# Altium footprint library D 电源模块.PcbLib: 107 footprints (part 5 of 7)
Each footprint in its own frame and in the unit in brackets; x right, y up, seen from the top. Pads: shape width x height; smd on the part's side, far side on the other; paste and mask are expansions set on the pad; w line width, h text height; cw(c..) or ccw(c..) is an arc to the next point about the centre after c.
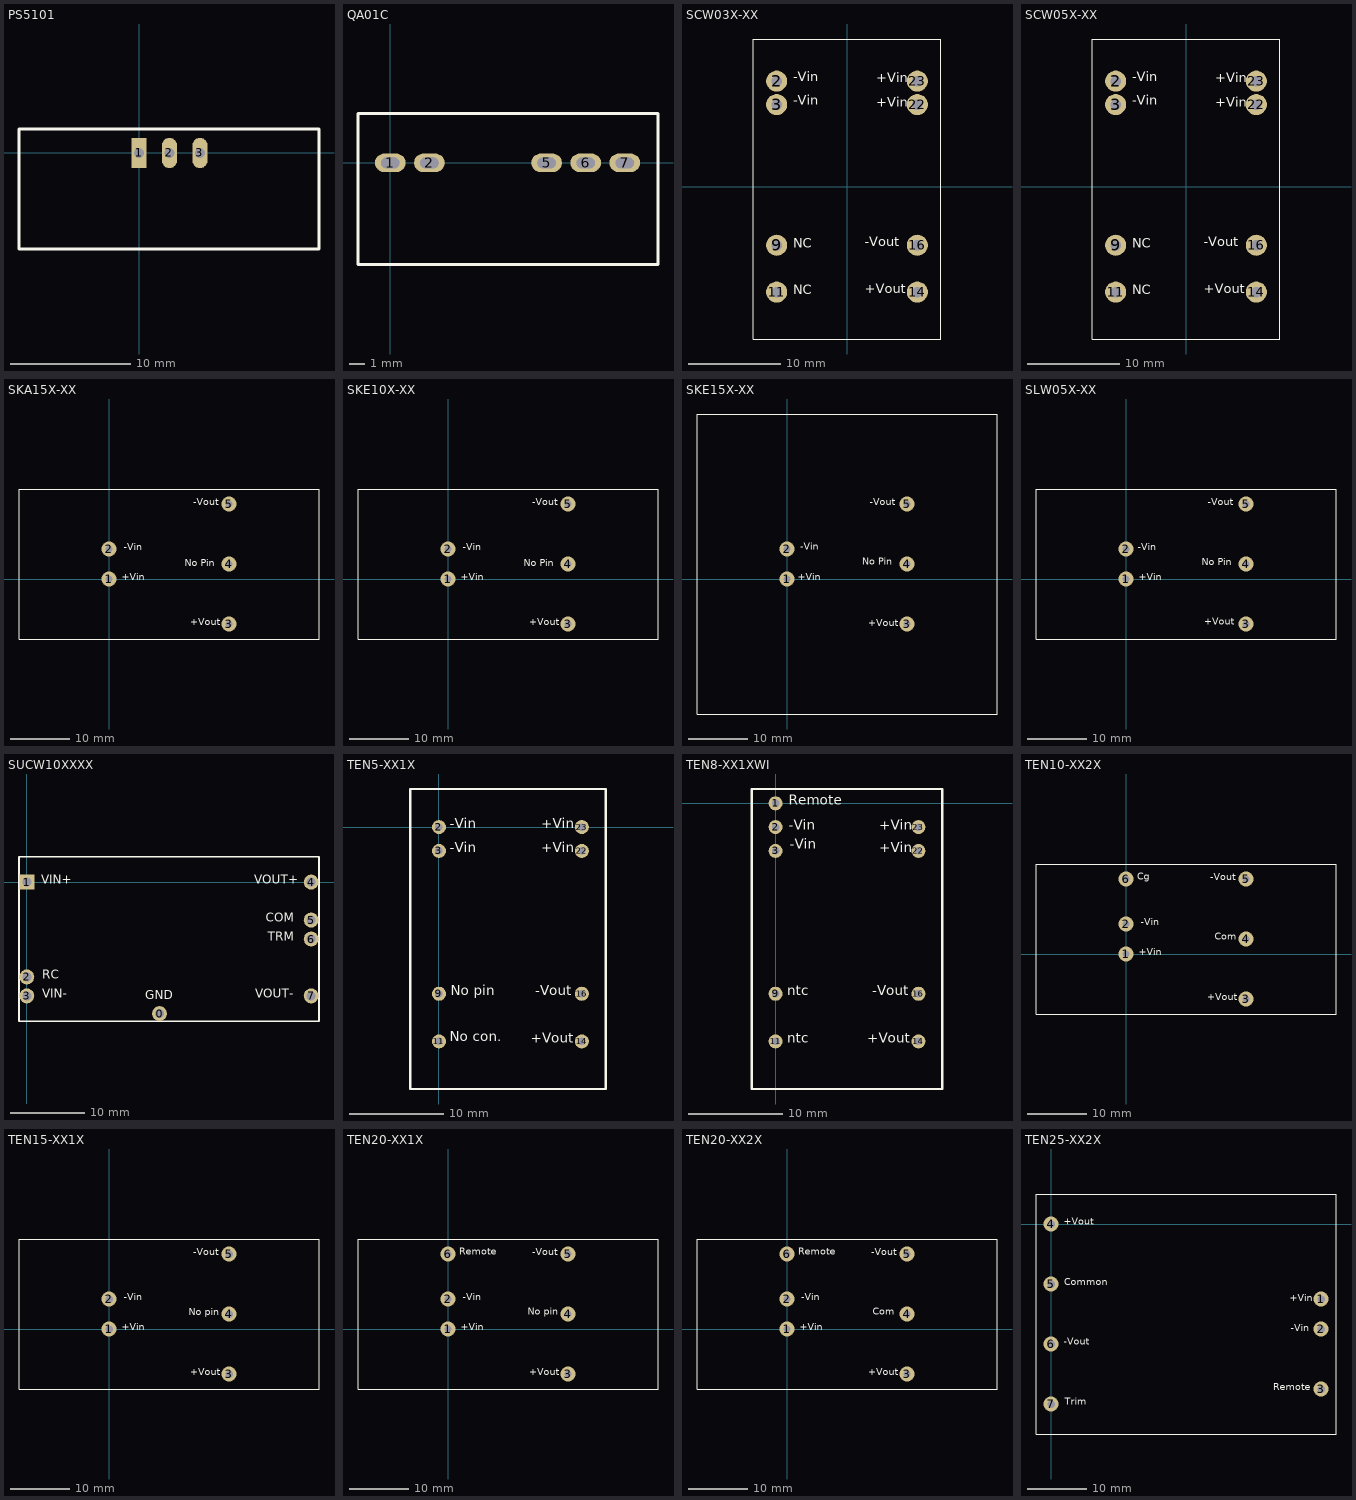
[diagram p4: the footprints below, top view; thin cyan lines are the x and y axes]

## PS5101 [mil] "TO-220封装，Input:7-40V,Output:5V ,5W降压型DC-DC电源模块"
height 1000
pads (3):
  rect 50x100 hole 32: 1(0,0)
  oval 50x100 hole 32: 2(100,0) 3(200,0)
Top Overlay:
  lines w10: -393.7,-314.96 -393.7,78.74 590.55,78.74 590.55,-314.96 -393.7,-314.96

## QA01C [mm]
height 15.7
pads (5):
  oval 2x1.2 hole 0.7 slot 1.2 at 0 deg: 1(0,0) 2(2.54,0) 5(10.16,0) 6(12.7,0) 7(15.24,0)
Top Overlay:
  lines w0.203: -2.1,-6.6 17.4,-6.6 17.4,3.2 -2.1,3.2 -2.1,-6.6

## SCW03X-XX [mil] "明纬DC-DC 3W 2：1宽输入/隔离稳压/单组输出电源"
height 480.31
pads (8):
  round 90 hole 45: 2(-300,450) 3(-300,350) 9(-300,-250) 11(-300,-450) 14(300,-450) 16(300,-250) 22(300,350) 23(300,450)
Top Overlay:
  lines w5: -400,-650 400,-650 400,630 -400,630 -400,-650
  text "+Vin" at 125,325 h70
  text "+Vin" at 125,430 h70
  text "-Vin" at -230,335 h70
  text "-Vin" at -230,435 h70
  text "-Vout" at 75,-270 h70
  text "+Vout" at 75,-470 h70
  text "NC" at -230,-275 h70
  text "NC" at -230,-475 h70
Bottom Overlay:
  text "+Vin" at 245,325 h70
  text "+Vin" at 245,425 h70
  text "-Vin" at -130,335 h70
  text "-Vin" at -125,435 h70
  text "-Vout" at 225,-270 h70
  text "+Vout" at 240,-470 h70
  text "NC" at -150,-275 h70
  text "NC" at -150,-475 h70

## SCW05X-XX [mil] "明纬DC-DC 5W 2：1宽输入/隔离稳压/单组输出电源"
height 480.31
pads (8):
  round 90 hole 45: 2(-300,450) 3(-300,350) 9(-300,-250) 11(-300,-450) 14(300,-450) 16(300,-250) 22(300,350) 23(300,450)
Top Overlay:
  lines w5: -400,-650 400,-650 400,630 -400,630 -400,-650
  text "-Vin" at -230,335 h70
  text "-Vin" at -230,435 h70
  text "+Vin" at 125,430 h70
  text "+Vin" at 125,325 h70
  text "NC" at -230,-275 h70
  text "NC" at -230,-475 h70
  text "+Vout" at 75,-470 h70
  text "-Vout" at 75,-270 h70
Bottom Overlay:
  text "-Vin" at -130,335 h70
  text "-Vin" at -125,435 h70
  text "+Vin" at 245,425 h70
  text "+Vin" at 245,325 h70
  text "NC" at -150,-275 h70
  text "NC" at -150,-475 h70
  text "+Vout" at 240,-470 h70
  text "-Vout" at 225,-270 h70

## SKA15X-XX [mil] "明纬DC-DC 15W 2：1宽输入/隔离稳压/单组输出电源"
height 443.7
pads (5):
  round 100 hole 45: 1(0,0) 2(0,200) 3(800,-300) 4(800,100) 5(800,500)
Top Overlay:
  lines w5: -600,-400 -600,600 1400,600 1400,-400 -600,-400
  text "-Vout" at 560,475 h80
  text "+Vout" at 540,-325 h80
  text "+Vin" at 85,-25 h80
  text "-Vin" at 99.91,175 h80
  text "No Pin" at 505,70 h80
Bottom Overlay:
  text "+Vout" at 720,-330 h80
  text "-Vin" at 220,175 h80
  text "+Vin" at 220,-25 h80
  text "-Vout" at 730,475 h80
  text "No Pin" at 710,70 h80

## SKE10X-XX [mil] "明纬DC-DC 10W 2：1宽输入/隔离稳压/单组输出电源"
height 443.7
pads (5):
  round 100 hole 45: 1(0,0) 2(0,200) 3(800,-300) 4(800,100) 5(800,500)
Top Overlay:
  lines w5: -600,-400 1400,-400 1400,600 -600,600 -600,-400
  text "No Pin" at 505,70 h80
  text "-Vin" at 99.91,175 h80
  text "+Vin" at 85,-25 h80
  text "+Vout" at 540,-325 h80
  text "-Vout" at 560,475 h80
Bottom Overlay:
  text "-Vout" at 730,475 h80
  text "+Vin" at 220,-25 h80
  text "-Vin" at 220,175 h80
  text "+Vout" at 720,-330 h80
  text "No Pin" at 715,70 h80

## SKE15X-XX [mil] "明纬DC-DC 15W 2：1宽输入/隔离稳压/单组输出电源"
height 433.07
pads (5):
  round 100 hole 45: 1(0,0) 2(0,200) 3(800,-300) 4(800,100) 5(800,500)
Top Overlay:
  lines w5: -600,-900 -600,1100 1400,1100 1400,-900 -600,-900
  text "No Pin" at 500,80 h80
  text "-Vin" at 89.91,180 h80
  text "+Vin" at 70,-25 h80
  text "+Vout" at 540,-330 h80
  text "-Vout" at 550,475 h80
Bottom Overlay:
  text "-Vout" at 720,475 h80
  text "+Vin" at 205,-25 h80
  text "-Vin" at 210,180 h80
  text "+Vout" at 720,-335 h80
  text "No Pin" at 710,80 h80

## SLW05X-XX [mil] "明纬DC-DC 5W 2：1宽输入/隔离稳压/单组输出电源"
height 443.7
pads (5):
  round 100 hole 45: 1(0,0) 2(0,200) 3(800,-300) 4(800,100) 5(800,500)
Top Overlay:
  lines w5: -600,-400 1400,-400 1400,600 -600,600 -600,-400
  text "No Pin" at 505,75 h80
  text "-Vin" at 79.91,175 h80
  text "+Vin" at 85,-25 h80
  text "+Vout" at 520,-320 h80
  text "-Vout" at 545,475 h80
Bottom Overlay:
  text "No Pin" at 710,75 h80
  text "-Vout" at 715,475 h80
  text "+Vin" at 220,-25 h80
  text "-Vin" at 200,175 h80
  text "+Vout" at 700,-325 h80

## SUCW10XXXX [mm] "COSEL 10W DC-DC电源"
height 7
pads (8):
  round 2 hole 1.2: 0(17.78,-17.62) 2(0,-12.7) 3(0,-15.24) 4(38.1,0) 5(38.1,-5.08) 6(38.1,-7.62) 7(38.1,-15.24)
  rect 2x2 hole 1.2: 1(0,0)
Top Overlay:
  lines w0.203: -1.05,-18.62 39.15,-18.62 39.15,3.38 -1.05,3.38 -1.05,-18.62
  text "VIN+" at 1.905,-0.635 h2.03
  text "RC" at 2.032,-13.335 h2.03
  text "VIN-" at 2.032,-15.875 h2.03
  text "VOUT+" at 30.48,-0.635 h2.03
  text "COM" at 32.004,-5.715 h2.03
  text "TRM" at 32.258,-8.255 h2.03
  text "VOUT-" at 30.607,-15.875 h2.03
  text "GND" at 15.875,-16.129 h2.03
Bottom Overlay:
  text "VOUT-" at 36.195,-15.875 h2.03
  text "TRM" at 35.941,-8.255 h2.03
  text "COM" at 35.941,-5.715 h2.03
  text "VOUT+" at 36.322,-0.635 h2.03
  text "VIN-" at 5.588,-15.875 h2.03
  text "RC" at 4.445,-13.335 h2.03
  text "VIN+" at 5.842,-0.635 h2.03
  text "GND" at 19.685,-16.129 h2.03

## TEN5-XX1X [mm] "TRACO DC-DC 6W 2：1宽输入/隔离稳压/单组输出电源"
height 10.16
pads (8):
  round 1.5 hole 0.8: 2(0,0) 3(0,-2.54) 9(0,-17.78) 11(0,-22.86) 14(15.24,-22.86) 16(15.24,-17.78) 22(15.24,-2.54) 23(15.24,0)
Top Overlay:
  lines w0.254: -3.048,-27.94 17.78,-27.94 17.78,4.064 -3.048,4.064 -3.048,-27.94
  text "+Vin" at 10.922,-0.508 h1.78
  text "+Vin" at 10.922,-3.048 h1.78
  text "-Vin" at 1.143,-3.048 h1.78
  text "-Vin" at 1.143,-0.508 h1.78
  text "No con." at 1.143,-23.241 h1.78
  text "+Vout" at 9.779,-23.368 h1.78
  text "No pin" at 1.27,-18.288 h1.78
  text "-Vout" at 10.287,-18.288 h1.78
Bottom Overlay:
  text "+Vin" at 14.097,-0.508 h1.78
  text "+Vin" at 14.097,-3.048 h1.78
  text "-Vin" at 3.81,-3.048 h1.78
  text "-Vin" at 3.81,-0.508 h1.78
  text "No con." at 6.35,-23.241 h1.78
  text "+Vout" at 14.097,-23.368 h1.78
  text "No pin" at 5.588,-18.161 h1.78
  text "-Vout" at 14.097,-18.288 h1.78

## TEN8-XX1XWI [mm] "TRACO DC-DC 12W 4：1宽输入/隔离稳压/单组输出电源"
height 10.16
pads (9):
  round 1.5 hole 0.8: 1(0,0) 2(0,-2.54) 3(0,-5.08) 9(0,-20.32) 11(0,-25.4) 14(15.24,-25.4) 16(15.24,-20.32) 22(15.24,-5.08) 23(15.24,-2.54)
Top Overlay:
  lines w0.254: -2.54,-30.48 -2.54,1.524 17.78,1.524 17.78,-30.48 -2.54,-30.48
  text "-Vin" at 1.397,-3.175 h1.78
  text "+Vout" at 9.779,-25.908 h1.78
  text "ntc" at 1.27,-20.828 h1.78
  text "-Vout" at 10.287,-20.828 h1.78
  text "+Vin" at 11.049,-3.175 h1.78
  text "Remote" at 1.397,-0.508 h1.78
  text "-Vin" at 1.524,-5.207 h1.78
  text "+Vin" at 11.049,-5.588 h1.78
  text "ntc" at 1.27,-25.908 h1.78
Bottom Overlay:
  text "-Vin" at 4.191,-3.175 h1.78
  text "+Vout" at 14.097,-25.908 h1.78
  text "ntc" at 3.175,-20.828 h1.78
  text "-Vout" at 14.097,-20.828 h1.78
  text "+Vin" at 14.224,-3.175 h1.78
  text "Remote" at 6.731,-0.508 h1.78
  text "-Vin" at 4.318,-5.207 h1.78
  text "+Vin" at 14.224,-5.588 h1.78
  text "ntc" at 3.175,-25.908 h1.78

## TEN10-XX2X [mil] "TRACO DC-DC 10W 2：1宽输入/隔离稳压/双组输出电源"
height 402
pads (6):
  round 100 hole 45: 1(0,0) 2(0,200) 3(800,-300) 4(800,100) 5(800,500) 6(0,500)
Top Overlay:
  lines w5: -600,-400 1400,-400 1400,600 -600,600 -600,-400
  text "Cg" at 75,480 h80
  text "Com" at 590,80 h80
  text "-Vin" at 99.91,175 h80
  text "+Vin" at 85,-25 h80
  text "+Vout" at 540,-325 h80
  text "-Vout" at 560,475 h80
Bottom Overlay:
  text "Cg" at 160,480 h80
  text "Com" at 735,75 h80
  text "-Vout" at 730,475 h80
  text "+Vin" at 220,-25 h80
  text "-Vin" at 220,175 h80
  text "+Vout" at 720,-330 h80

## TEN15-XX1X [mil] "TRACO DC-DC 5W 2：1宽输入/隔离稳压/单组输出电源"
height 402
pads (5):
  round 100 hole 50: 1(0,0) 2(0,200) 3(800,-300) 4(800,100) 5(800,500)
Top Overlay:
  lines w5: -600,-400 1400,-400 1400,600 -600,600 -600,-400
  text "No pin" at 530,75 h80
  text "-Vin" at 99.91,175 h80
  text "+Vin" at 85,-25 h80
  text "+Vout" at 540,-325 h80
  text "-Vout" at 560,475 h80
Bottom Overlay:
  text "No pin" at 725,75 h80
  text "-Vout" at 730,475 h80
  text "+Vin" at 220,-25 h80
  text "-Vin" at 220,175 h80
  text "+Vout" at 720,-330 h80

## TEN20-XX1X [mil] "TRACO DC-DC 20W 2：1宽输入/隔离稳压/单组输出电源"
height 400
pads (6):
  round 100 hole 45: 1(0,0) 2(0,200) 3(800,-300) 4(800,100) 5(800,500) 6(0,500)
Top Overlay:
  lines w5: -600,-400 -600,600 1400,600 1400,-400 -600,-400
  text "-Vout" at 560,475 h80
  text "+Vout" at 540,-325 h80
  text "+Vin" at 85,-25 h80
  text "-Vin" at 99.91,175 h80
  text "No pin" at 530,80 h80
  text "Remote" at 75,480 h80
Bottom Overlay:
  text "+Vout" at 720,-330 h80
  text "-Vin" at 220,175 h80
  text "+Vin" at 220,-25 h80
  text "-Vout" at 730,475 h80
  text "No pin" at 720,80 h80
  text "Remote" at 320,480 h80

## TEN20-XX2X [mil] "TRACO DC-DC 20W 2：1宽输入/隔离稳压/双组输出电源"
height 400
pads (6):
  round 100 hole 45: 1(0,0) 2(0,200) 3(800,-300) 4(800,100) 5(800,500) 6(0,500)
Top Overlay:
  lines w5: -600,-400 -600,600 1400,600 1400,-400 -600,-400
  text "-Vout" at 560,475 h80
  text "+Vout" at 540,-325 h80
  text "+Vin" at 85,-25 h80
  text "-Vin" at 94.91,175 h80
  text "Com" at 570,80 h80
  text "Remote" at 75,480 h80
Bottom Overlay:
  text "+Vout" at 720,-330 h80
  text "-Vin" at 215,175 h80
  text "+Vin" at 220,-25 h80
  text "-Vout" at 730,475 h80
  text "Com" at 720,80 h80
  text "Remote" at 320,480 h80

## TEN25-XX2X [mil] "TRACO DC-DC 25W 2：1宽输入/隔离稳压/双组输出电源"
height 380
pads (7):
  round 100 hole 50: 1(1800,-500) 2(1800,-700) 3(1800,-1100) 4(0,0) 5(0,-400) 6(0,-800) 7(0,-1200)
Top Overlay:
  lines w5: -100,-1400 1900,-1400 1900,200 -100,200 -100,-1400
  text "Remote" at 1480,-1125 h80
  text "-Vin" at 1599.91,-730 h80
  text "Trim" at 90,-1220 h80
  text "+Vout" at 85,-20 h80
  text "-Vout" at 85,-820 h80
  text "+Vin" at 1590,-530 h80
  text "Common" at 89.91,-425 h80
Bottom Overlay:
  text "Remote" at 1720,-1130 h80
  text "-Vout" at 255,-820 h80
  text "Trim" at 230,-1220 h80
  text "-Vin" at 1720,-730 h80
  text "+Vout" at 270,-20 h80
  text "Common" at 375,-425 h80
  text "+Vin" at 1725,-530 h80